# EAGLE library part GROWFLUXMESH_MODULE (library AetherConnectivity)
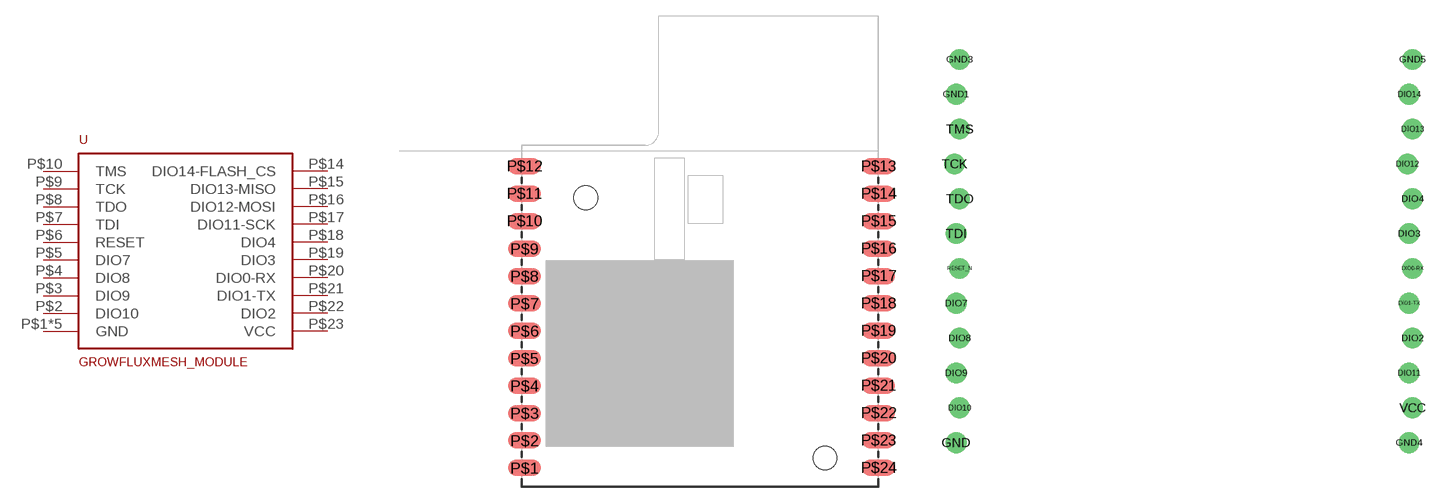
[diagram p0: symbol with the pads of GROWFLUXMESH_SMD_MOUNT_HOLES; footprints GROWFLUXMESH_SMD_MOUNT_HOLES, GROWFLUXMESH_PTH_4.4.0]

Designator prefix -

## GROWFLUXMESH_MODULESMD_HOLES  [GROWFLUXMESH_SMD_MOUNT_HOLES]
P$1  GND
P$2  DIO10
P$3  DIO9
P$4  DIO8
P$5  DIO7
P$6  RESET
P$7  TDI
P$8  TDO
P$9  TCK
P$10  TMS
P$11  GND
P$12  GND
P$13  GND
P$14  DIO14-FLASH_CS
P$15  DIO13-MISO
P$16  DIO12-MOSI
P$17  DIO11-SCK
P$18  DIO4
P$19  DIO3
P$20  DIO0-RX
P$21  DIO1-TX
P$22  DIO2
P$23  VCC
P$24  GND

## GROWFLUXMESH_MODULE4.4.0PTH  [GROWFLUXMESH_PTH_4.4.0]
DIO0-RX  DIO0-RX
DIO1-TX  DIO1-TX
DIO2  DIO2
DIO3  DIO3
DIO4  DIO4
DIO7  DIO7
DIO8  DIO8
DIO9  DIO9
DIO10  DIO10
DIO11  DIO11-SCK
DIO12  DIO12-MOSI
DIO13  DIO13-MISO
DIO14  DIO14-FLASH_CS
GND  GND
GND1  GND
GND3  GND
GND4  GND
GND5  GND
RESET_N  RESET
TCK  TCK
TDI  TDI
TDO  TDO
TMS  TMS
VCC  VCC

## GROWFLUXMESH_MODULEMEZZ-NOHOLES  [GROWFLUXMESH_MEZZ_MOUNT_NOHOLES]
P$1  DIO8
P$2  DIO7
P$3  RESET
P$4  TDI
P$5  TDO
P$6  TCK
P$7  TMS
P$8  DIO11-SCK
P$9  DIO12-MOSI
P$10  DIO13-MISO
P$11  DIO14-FLASH_CS
P$12  GND
P$13  GND
P$14  GND
P$15  GND
P$16  GND
P$17  VCC
P$18  VCC
P$19  DIO9
P$20  DIO10
P$21  DIO2
P$22  DIO1-TX
P$23  DIO0-RX
P$24  DIO3
P$25  DIO4
P$26  GND
P$27  GND
P$28  GND
P$29  GND
P$30  GND

## GROWFLUXMESH_MODULEMEZZ-HOLES  [GROWFLUXMESH_MEZZ_MOUNT_HOLES]
Pads as for GROWFLUXMESH_MEZZ_MOUNT_NOHOLES

## Footprint GROWFLUXMESH_SMD_MOUNT_HOLES (pad centres in mm)
smd 3.048 x 1.524: P$1 0.254,1.727; P$2 0.254,4.267; P$3 0.254,6.807; P$4 0.254,9.347; P$5 0.254,11.887; P$6 0.254,14.427; P$7 0.254,16.967; P$8 0.254,19.507; P$9 0.254,22.047; P$10 0.254,24.587; P$11 0.254,27.127; P$12 0.254,29.667; P$13 33.071,29.667; P$14 33.071,27.127; P$15 33.071,24.587; P$16 33.071,22.047; P$17 33.071,19.507; P$18 33.071,16.967; P$19 33.071,14.427; P$20 33.071,11.887; P$21 33.071,9.347; P$22 33.071,6.807; P$23 33.071,4.267; P$24 33.071,1.727
hole 2.2 at 28.106,2.642
hole 2.2 at 5.932,26.772

## Footprint GROWFLUXMESH_PTH_4.4.0 (pad centres in mm)
drill 1: DIO0-RX 33.147,12.7; DIO1-TX 32.893,10.16; DIO2 33.147,7.62; DIO3 32.893,15.24; DIO4 33.147,17.78; DIO7 -0.127,10.16; DIO8 0.127,7.62; DIO9 -0.127,5.08; DIO10 0.127,2.54; DIO11 32.893,5.08; DIO12 32.766,20.32; DIO13 33.147,22.86; DIO14 32.893,25.4; GND -0.127,0; GND1 -0.127,25.4; GND3 0.127,27.94; GND4 32.893,0; GND5 33.147,27.94; RESET_N 0.127,12.7; TCK -0.254,20.32; TDI -0.127,15.24; TDO 0.127,17.78; TMS 0.127,22.86; VCC 33.147,2.54

## Footprint GROWFLUXMESH_MEZZ_MOUNT_NOHOLES (pad centres in mm)
smd 1.8 x 0.32: P$1 2,-3.5; P$2 2,-3; P$3 2,-2.5; P$4 2,-2; P$5 2,-1.5; P$6 2,-1; P$7 2,-0.5; P$8 2,0; P$9 2,0.5; P$10 2,1; P$11 2,1.5; P$12 2,2; P$13 2,2.5; P$14 2,3; P$15 2,3.5; P$16 -2,-3.5; P$17 -2,-3; P$18 -2,-2.5; P$19 -2,-2; P$20 -2,-1.5; P$21 -2,-1; P$22 -2,-0.5; P$23 -2,0; P$24 -2,0.5; P$25 -2,1; P$26 -2,1.5; P$27 -2,2; P$28 -2,2.5; P$29 -2,3; P$30 -2,3.5

## Footprint GROWFLUXMESH_MEZZ_MOUNT_HOLES (pad centres in mm)
smd 1.8 x 0.32: P$1 2,-3.5; P$2 2,-3; P$3 2,-2.5; P$4 2,-2; P$5 2,-1.5; P$6 2,-1; P$7 2,-0.5; P$8 2,0; P$9 2,0.5; P$10 2,1; P$11 2,1.5; P$12 2,2; P$13 2,2.5; P$14 2,3; P$15 2,3.5; P$16 -2,-3.5; P$17 -2,-3; P$18 -2,-2.5; P$19 -2,-2; P$20 -2,-1.5; P$21 -2,-1; P$22 -2,-0.5; P$23 -2,0; P$24 -2,0.5; P$25 -2,1; P$26 -2,1.5; P$27 -2,2; P$28 -2,2.5; P$29 -2,3; P$30 -2,3.5
hole 2.2 at 21.857,12.802
hole 2.2 at -0.318,-11.328